# Altium footprint library CONN_HDR_2MM_ST.PcbLib: 49 footprints (part 3 of 4)
Each footprint in its own frame and in the unit in brackets; x right, y up, seen from the top. Pads: shape width x height; smd on the part's side, far side on the other; paste and mask are expansions set on the pad; w line width, h text height; cw(c..) or ccw(c..) is an arc to the next point about the centre after c.
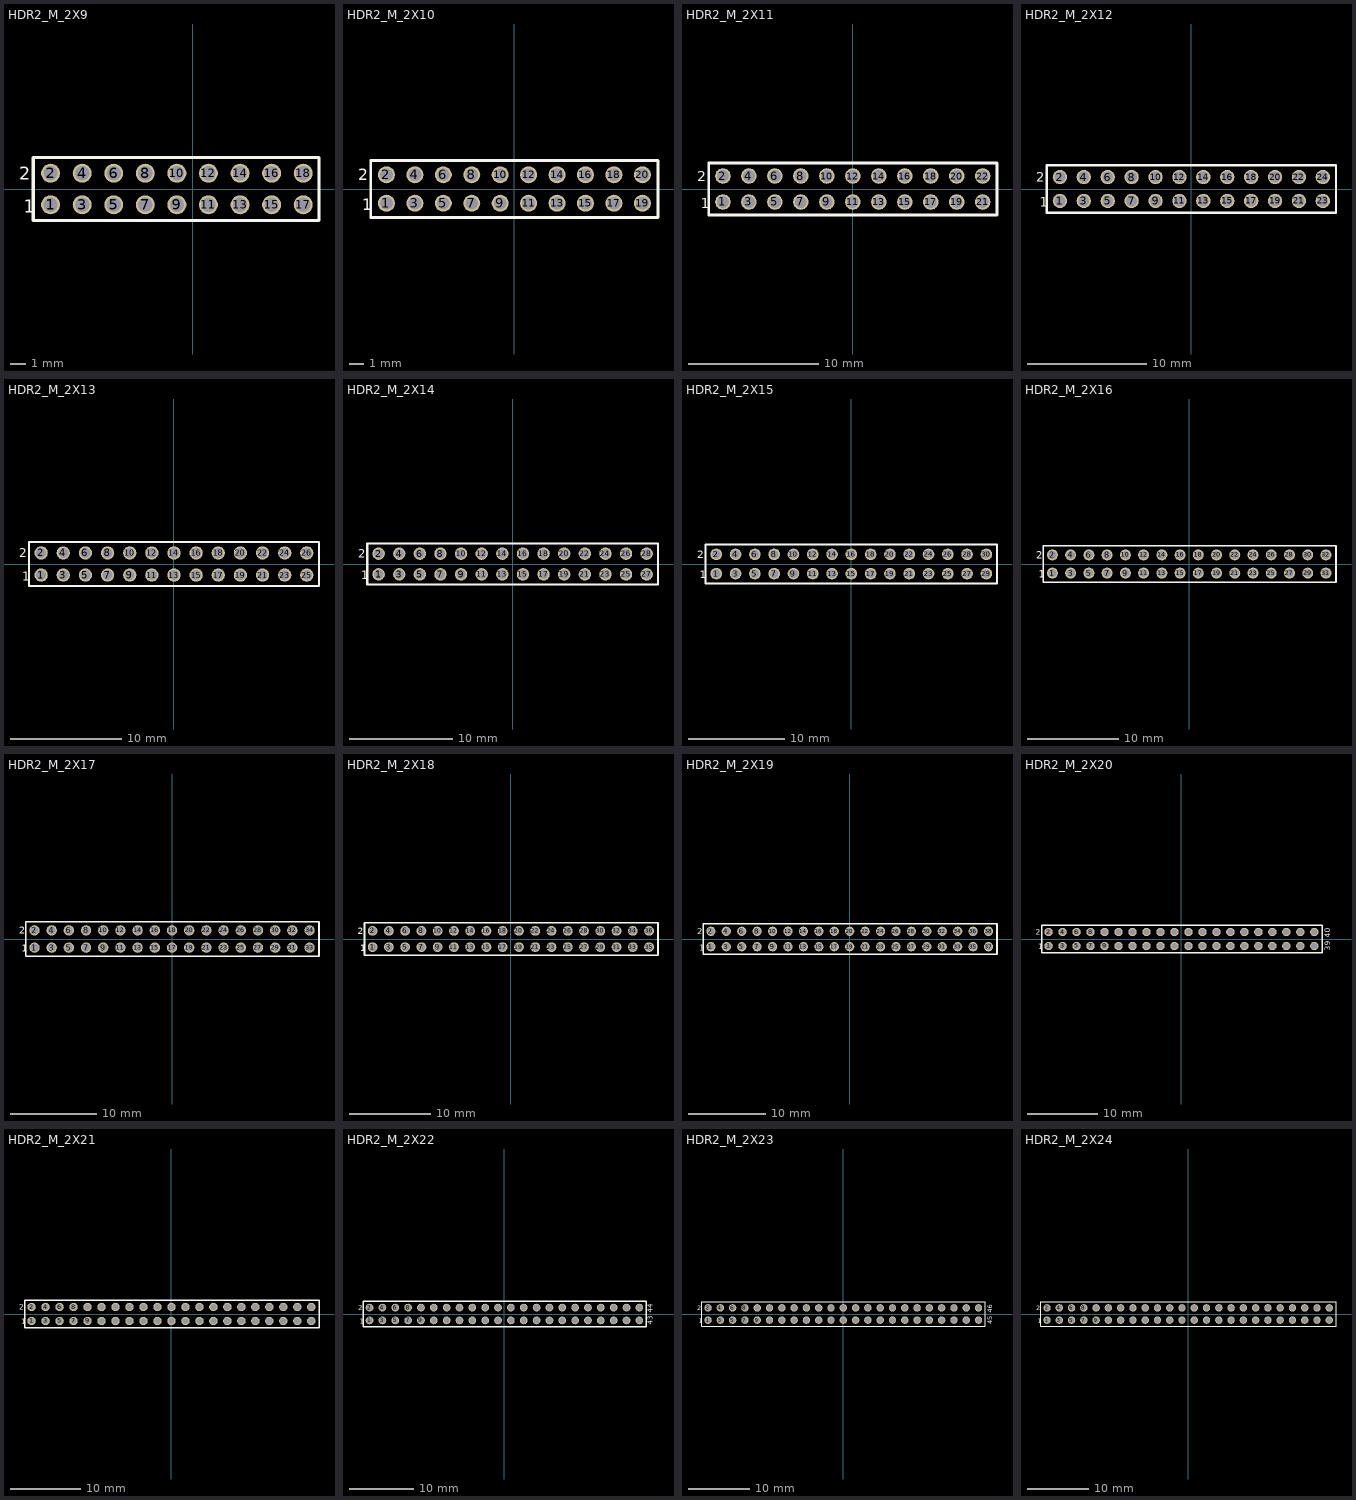
[diagram p2: the footprints below, top view; thin cyan lines are the x and y axes]

## HDR2_M_2X9 [mm] "Connector; Header; 2mm Pitch"
pads (18):
  round 1.2 / inner round 1.2 / far side oval 1.2x1.6 hole 0.9: 1(-9,-1) 2(-9,1) 3(-7,-1) 4(-7,1) 5(-5,-1) 6(-5,1) 7(-3,-1) 8(-3,1) 9(-1,-1) 10(-1,1) 11(1,-1) 12(1,1) 13(3,-1) 14(3,1) 15(5,-1) 16(5,1) 17(7,-1) 18(7,1)
Top Overlay:
  lines w0.2: -10.1,-2 8,-2 8,2 -10.1,2 -10.1,-2
  text "1" at -10.7,-1.5 h0.8
  text "2" at -11,0.6 h0.8
3D body "pin_header_a-sl200-dg-g06d.stp": height 6, standoff -2.8, extent 2.05,-2 7.95,2
3D body "pin_header_a-sl200-dg-g06d.stp": height 6, standoff -2.8, extent -3.95,-2 1.95,2
3D body "pin_header_a-sl200-dg-g06d.stp": height 6, standoff -2.8, extent -9.95,-2 -4.05,2

## HDR2_M_2X10 [mm] "Connector; Header; 2mm Pitch"
pads (20):
  round 1.2 / inner round 1.2 / far side oval 1.2x1.6 hole 0.9: 1(-9,-1) 2(-9,1) 3(-7,-1) 4(-7,1) 5(-5,-1) 6(-5,1) 7(-3,-1) 8(-3,1) 9(-1,-1) 10(-1,1) 11(1,-1) 12(1,1) 13(3,-1) 14(3,1) 15(5,-1) 16(5,1) 17(7,-1) 18(7,1) 19(9,-1) 20(9,1)
Top Overlay:
  lines w0.2: -10.1,-2 10.1,-2 10.1,2 -10.1,2 -10.1,-2
  text "1" at -10.7,-1.5 h0.8
  text "2" at -11,0.6 h0.8
3D body "pin_header_a-sl200-dg-g20d.stp": height 6, standoff -2.8, extent -9.95,-2 9.95,2

## HDR2_M_2X11 [mm] "Connector; Header; 2mm Pitch"
pads (22):
  round 1.2 / inner round 1.2 / far side oval 1.2x1.6 hole 0.9: 1(-10,-1) 2(-10,1) 3(-8,-1) 4(-8,1) 5(-6,-1) 6(-6,1) 7(-4,-1) 8(-4,1) 9(-2,-1) 10(-2,1) 11(0,-1) 12(0,1) 13(2,-1) 14(2,1) 15(4,-1) 16(4,1) 17(6,-1) 18(6,1) 19(8,-1) 20(8,1) 21(10,-1) 22(10,1)
Top Overlay:
  lines w0.2: -11.1,-2 11.1,-2 11.1,2 -11.1,2 -11.1,-2
  text "1" at -11.7,-1.5 h0.8
  text "2" at -12,0.6 h0.8
3D body "pin_header_a-sl200-dg-g04d.stp": height 6, standoff -2.8, extent 7.05,-2 10.95,2
3D body "pin_header_a-sl200-dg-g06d.stp": height 6, standoff -2.8, extent -10.95,-2 -5.05,2
3D body "pin_header_a-sl200-dg-g06d.stp": height 6, standoff -2.8, extent -4.95,-2 0.95,2
3D body "pin_header_a-sl200-dg-g06d.stp": height 6, standoff -2.8, extent 1.05,-2 6.95,2

## HDR2_M_2X12 [mm] "Connector; Header; 2mm Pitch"
pads (24):
  round 1.2 / inner round 1.2 / far side oval 1.2x1.6 hole 0.9: 1(-11,-1) 2(-11,1) 3(-9,-1) 4(-9,1) 5(-7,-1) 6(-7,1) 7(-5,-1) 8(-5,1) 9(-3,-1) 10(-3,1) 11(-1,-1) 12(-1,1) 13(1,-1) 14(1,1) 15(3,-1) 16(3,1) 17(5,-1) 18(5,1) 19(7,-1) 20(7,1) 21(9,-1) 22(9,1) 23(11,-1) 24(11,1)
Top Overlay:
  lines w0.2: -12.1,-2 -12.1,2 12.1,2 12.1,-2 -12.1,-2
  text "2" at -13,0.6 h0.8
  text "1" at -12.7,-1.5 h0.8
3D body "pin_header_a-sl200-dg-g20d.stp": height 6, standoff -2.8, extent -11.95,-2 7.95,2
3D body "pin_header_a-sl200-dg-g04d.stp": height 6, standoff -2.8, extent 8.05,-2 11.95,2

## HDR2_M_2X13 [mm] "Connector; Header; 2mm Pitch"
pads (26):
  round 1.2 / inner round 1.2 / far side oval 1.2x1.6 hole 0.9: 1(-12,-1) 2(-12,1) 3(-10,-1) 4(-10,1) 5(-8,-1) 6(-8,1) 7(-6,-1) 8(-6,1) 9(-4,-1) 10(-4,1) 11(-2,-1) 12(-2,1) 13(0,-1) 14(0,1) 15(2,-1) 16(2,1) 17(4,-1) 18(4,1) 19(6,-1) 20(6,1) 21(8,-1) 22(8,1) 23(10,-1) 24(10,1) 25(12,-1) 26(12,1)
Top Overlay:
  lines w0.2: -13.1,-2 13.1,-2 13.1,2 -13.1,2 -13.1,-2
  text "1" at -13.7,-1.5 h0.8
  text "2" at -14,0.6 h0.8
3D body "pin_header_a-sl200-dg-g06d.stp": height 6, standoff -2.8, extent 7.05,-2 12.95,2
3D body "pin_header_a-sl200-dg-g20d.stp": height 6, standoff -2.8, extent -12.95,-2 6.95,2

## HDR2_M_2X14 [mm] "Connector; Header; 2mm Pitch"
pads (28):
  round 1.2 / inner round 1.2 / far side oval 1.2x1.6 hole 0.9: 1(-13,-1) 2(-13,1) 3(-11,-1) 4(-11,1) 5(-9,-1) 6(-9,1) 7(-7,-1) 8(-7,1) 9(-5,-1) 10(-5,1) 11(-3,-1) 12(-3,1) 13(-1,-1) 14(-1,1) 15(1,-1) 16(1,1) 17(3,-1) 18(3,1) 19(5,-1) 20(5,1) 21(7,-1) 22(7,1) 23(9,-1) 24(9,1) 25(11,-1) 26(11,1) 27(13,-1) 28(13,1)
Top Overlay:
  lines w0.2: -14.1,-2 -14.1,2 14.1,2 14.1,-2 -14.1,-2
  text "2" at -15,0.6 h0.8
  text "1" at -14.7,-1.5 h0.8
3D body "pin_header_a-sl200-dg-g08d.stp": height 6, standoff -2.8, extent 6.05,-2 13.95,2
3D body "pin_header_a-sl200-dg-g20d.stp": height 6, standoff -2.8, extent -13.95,-2 5.95,2

## HDR2_M_2X15 [mm] "Connector; Header; 2mm Pitch"
pads (30):
  round 1.2 / inner round 1.2 / far side oval 1.2x1.6 hole 0.9: 1(-14,-1) 2(-14,1) 3(-12,-1) 4(-12,1) 5(-10,-1) 6(-10,1) 7(-8,-1) 8(-8,1) 9(-6,-1) 10(-6,1) 11(-4,-1) 12(-4,1) 13(-2,-1) 14(-2,1) 15(0,-1) 16(0,1) 17(2,-1) 18(2,1) 19(4,-1) 20(4,1) 21(6,-1) 22(6,1) 23(8,-1) 24(8,1) 25(10,-1) 26(10,1) 27(12,-1) 28(12,1) 29(14,-1) 30(14,1)
Top Overlay:
  lines w0.2: -15.1,-2 -15.1,2 15.1,2 15.1,-2 -15.1,-2
  text "2" at -16,0.6 h0.8
  text "1" at -15.7,-1.5 h0.8
3D body "pin_header_a-sl200-dg-g10d.stp": height 6, standoff -2.8, extent 5.05,-2 14.95,2
3D body "pin_header_a-sl200-dg-g20d.stp": height 6, standoff -2.8, extent -14.95,-2 4.95,2

## HDR2_M_2X16 [mm] "Connector; Header; 16x2 Position; 2mm Pitch"
pads (32):
  round 1.2 / inner round 1.2 / far side oval 1.2x1.6 hole 0.9: 1(-15,-1) 2(-15,1) 3(-13,-1) 4(-13,1) 5(-11,-1) 6(-11,1) 7(-9,-1) 8(-9,1) 9(-7,-1) 10(-7,1) 11(-5,-1) 12(-5,1) 13(-3,-1) 14(-3,1) 15(-1,-1) 16(-1,1) 17(1,-1) 18(1,1) 19(3,-1) 20(3,1) 21(5,-1) 22(5,1) 23(7,-1) 24(7,1) 25(9,-1) 26(9,1) 27(11,-1) 28(11,1) 29(13,-1) 30(13,1) 31(15,-1) 32(15,1)
Top Overlay:
  lines w0.2: -16,-2 -16,2 16.1,2 16.1,-2 -16,-2
  text "2" at -16.8,0.6 h0.8
  text "1" at -16.5,-1.5 h0.8
3D body "pin_header_a-sl200-dg-g20d.stp": height 6, standoff -2.8, extent -15.95,-2 3.95,2
3D body "pin_header_a-sl200-dg-g06d.stp": height 6, standoff -2.8, extent 4.05,-2 9.95,2
3D body "pin_header_a-sl200-dg-g06d.stp": height 6, standoff -2.8, extent 10.05,-2 15.95,2

## HDR2_M_2X17 [mm] "Connector; Header; 2mm Pitch"
pads (34):
  round 1.2 / inner round 1.2 / far side oval 1.2x1.6 hole 0.9: 1(-16,-1) 2(-16,1) 3(-14,-1) 4(-14,1) 5(-12,-1) 6(-12,1) 7(-10,-1) 8(-10,1) 9(-8,-1) 10(-8,1) 11(-6,-1) 12(-6,1) 13(-4,-1) 14(-4,1) 15(-2,-1) 16(-2,1) 17(0,-1) 18(0,1) 19(2,-1) 20(2,1) 21(4,-1) 22(4,1) 23(6,-1) 24(6,1) 25(8,-1) 26(8,1) 27(10,-1) 28(10,1) 29(12,-1) 30(12,1) 31(14,-1) 32(14,1) 33(16,-1) 34(16,1)
Top Overlay:
  lines w0.2: -17,-2 -17,2 17.1,2 17.1,-2 -17,-2
  text "2" at -17.8,0.6 h0.8
  text "1" at -17.5,-1.5 h0.8
3D body "pin_header_a-sl200-dg-g06d.stp": height 6, standoff -2.8, extent 3.05,-2 8.95,2
3D body "pin_header_a-sl200-dg-g08d.stp": height 6, standoff -2.8, extent 9.05,-2 16.95,2
3D body "pin_header_a-sl200-dg-g20d.stp": height 6, standoff -2.8, extent -16.95,-2 2.95,2

## HDR2_M_2X18 [mm] "Connector; Header; 2mm Pitch"
pads (36):
  round 1.2 / inner round 1.2 / far side oval 1.2x1.6 hole 0.9: 1(-17,-1) 2(-17,1) 3(-15,-1) 4(-15,1) 5(-13,-1) 6(-13,1) 7(-11,-1) 8(-11,1) 9(-9,-1) 10(-9,1) 11(-7,-1) 12(-7,1) 13(-5,-1) 14(-5,1) 15(-3,-1) 16(-3,1) 17(-1,-1) 18(-1,1) 19(1,-1) 20(1,1) 21(3,-1) 22(3,1) 23(5,-1) 24(5,1) 25(7,-1) 26(7,1) 27(9,-1) 28(9,1) 29(11,-1) 30(11,1) 31(13,-1) 32(13,1) 33(15,-1) 34(15,1) 35(17,-1) 36(17,1)
Top Overlay:
  lines w0.2: -18,-2 -18,2 18.1,2 18.1,-2 -18,-2
  text "2" at -18.8,0.6 h0.8
  text "1" at -18.5,-1.5 h0.8
3D body "pin_header_a-sl200-dg-g20d.stp": height 6, standoff -2.8, extent -17.95,-2 1.95,2
3D body "pin_header_a-sl200-dg-g08d.stp": height 6, standoff -2.8, extent 2.05,-2 9.95,2
3D body "pin_header_a-sl200-dg-g08d.stp": height 6, standoff -2.8, extent 10.05,-2 17.95,2

## HDR2_M_2X19 [mm] "Connector; Header; 2mm Pitch"
pads (38):
  round 1.2 / inner round 1.2 / far side oval 1.2x1.6 hole 0.9: 1(-18,-1) 2(-18,1) 3(-16,-1) 4(-16,1) 5(-14,-1) 6(-14,1) 7(-12,-1) 8(-12,1) 9(-10,-1) 10(-10,1) 11(-8,-1) 12(-8,1) 13(-6,-1) 14(-6,1) 15(-4,-1) 16(-4,1) 17(-2,-1) 18(-2,1) 19(0,-1) 20(0,1) 21(2,-1) 22(2,1) 23(4,-1) 24(4,1) 25(6,-1) 26(6,1) 27(8,-1) 28(8,1) 29(10,-1) 30(10,1) 31(12,-1) 32(12,1) 33(14,-1) 34(14,1) 35(16,-1) 36(16,1) 37(18,-1) 38(18,1)
Top Overlay:
  lines w0.2: -19,-2 -19,2 19.1,2 19.1,-2 -19,-2
  text "2" at -19.8,0.6 h0.8
  text "1" at -19.5,-1.5 h0.8
3D body "pin_header_a-sl200-dg-g06d.stp": height 6, standoff -2.8, extent 13.05,-2 18.95,2
3D body "pin_header_a-sl200-dg-g06d.stp": height 6, standoff -2.8, extent 7.05,-2 12.95,2
3D body "pin_header_a-sl200-dg-g06d.stp": height 6, standoff -2.8, extent 1.05,-2 6.95,2
3D body "pin_header_a-sl200-dg-g20d.stp": height 6, standoff -2.8, extent -18.95,-2 0.95,2

## HDR2_M_2X20 [mm] "Connector; Header; 20x2 Position; 2mm Pitch"
pads (40):
  round 1.2 / inner round 1.2 / far side oval 1.2x1.6 hole 0.9: 1(-19,-1) 2(-19,1) 3(-17,-1) 4(-17,1) 5(-15,-1) 6(-15,1) 7(-13,-1) 8(-13,1) 9(-11,-1) 10(-11,1) 11(-9,-1) 12(-9,1) 13(-7,-1) 14(-7,1) 15(-5,-1) 16(-5,1) 17(-3,-1) 18(-3,1) 19(-1,-1) 20(-1,1) 21(1,-1) 22(1,1) 23(3,-1) 24(3,1) 25(5,-1) 26(5,1) 27(7,-1) 28(7,1) 29(9,-1) 30(9,1) 31(11,-1) 32(11,1) 33(13,-1) 34(13,1) 35(15,-1) 36(15,1) 37(17,-1) 38(17,1) 39(19,-1) 40(19,1)
Top Overlay:
  lines w0.2: -20,-2 20.1,-2 20.1,2 -20,2 -20,-2
  text "1" at -20.5,-1.5 h0.8
  text "2" at -20.8,0.6 h0.8
  text "40" at 21.3,0.2 h0.8
  text "39" at 21.3,-1.7 h0.8
3D body "pin_header_a-sl200-dg-g20d.stp": height 6, standoff -2.8, extent 0.05,-2 19.95,2
3D body "pin_header_a-sl200-dg-g20d.stp": height 6, standoff -2.8, extent -19.95,-2 -0.05,2

## HDR2_M_2X21 [mm] "Connector; Header; 21x2 Position; 2mm Pitch"
pads (42):
  round 1.2 / inner round 1.2 / far side oval 1.2x1.6 hole 0.9: 1(-20,-1) 2(-20,1) 3(-18,-1) 4(-18,1) 5(-16,-1) 6(-16,1) 7(-14,-1) 8(-14,1) 9(-12,-1) 10(-12,1) 11(-10,-1) 12(-10,1) 13(-8,-1) 14(-8,1) 15(-6,-1) 16(-6,1) 17(-4,-1) 18(-4,1) 19(-2,-1) 20(-2,1) 21(0,-1) 22(0,1) 23(2,-1) 24(2,1) 25(4,-1) 26(4,1) 27(6,-1) 28(6,1) 29(8,-1) 30(8,1) 31(10,-1) 32(10,1) 33(12,-1) 34(12,1) 35(14,-1) 36(14,1) 37(16,-1) 38(16,1) 39(18,-1) 40(18,1) 41(20,-1) 42(20,1)
Top Overlay:
  lines w0.2: -21,-2 21.1,-2 21.1,2 -21,2 -21,-2
  text "1" at -21.5,-1.5 h0.8
  text "2" at -21.8,0.6 h0.8
3D body "pin_header_a-sl200-dg-g20d.stp": height 6, standoff -2.8, extent -20.95,-2 -1.05,2
3D body "pin_header_a-sl200-dg-g04d.stp": height 6, standoff -2.8, extent 17.05,-2 20.95,2
3D body "pin_header_a-sl200-dg-g06d.stp": height 6, standoff -2.8, extent -0.95,-2 4.95,2
3D body "pin_header_a-sl200-dg-g06d.stp": height 6, standoff -2.8, extent 5.05,-2 10.95,2
3D body "pin_header_a-sl200-dg-g06d.stp": height 6, standoff -2.8, extent 11.05,-2 16.95,2

## HDR2_M_2X22 [mm] "Connector; Header; 22x2 Position; 2mm Pitch"
pads (44):
  round 1.2 / inner round 1.2 / far side oval 1.2x1.6 hole 0.9: 1(-21,-1) 2(-21,1) 3(-19,-1) 4(-19,1) 5(-17,-1) 6(-17,1) 7(-15,-1) 8(-15,1) 9(-13,-1) 10(-13,1) 11(-11,-1) 12(-11,1) 13(-9,-1) 14(-9,1) 15(-7,-1) 16(-7,1) 17(-5,-1) 18(-5,1) 19(-3,-1) 20(-3,1) 21(-1,-1) 22(-1,1) 23(1,-1) 24(1,1) 25(3,-1) 26(3,1) 27(5,-1) 28(5,1) 29(7,-1) 30(7,1) 31(9,-1) 32(9,1) 33(11,-1) 34(11,1) 35(13,-1) 36(13,1) 37(15,-1) 38(15,1) 39(17,-1) 40(17,1) 41(19,-1) 42(19,1) 43(21,-1) 44(21,1)
Top Overlay:
  lines w0.2: -22,-2 -22,2 22.1,2 22.1,-2 -22,-2
  text "43" at 23.1,-1.7 h0.8
  text "44" at 23.1,0.2 h0.8
  text "2" at -22.8,0.6 h0.8
  text "1" at -22.5,-1.5 h0.8
3D body "pin_header_a-sl200-dg-g04d.stp": height 6, standoff -2.8, extent 18.05,-2 21.95,2
3D body "pin_header_a-sl200-dg-g20d.stp": height 6, standoff -2.8, extent -21.95,-2 -2.05,2
3D body "pin_header_a-sl200-dg-g20d.stp": height 6, standoff -2.8, extent -1.95,-2 17.95,2

## HDR2_M_2X23 [mm] "Connector; Header; 23x2 Position; 2mm Pitch"
pads (46):
  round 1.2 / inner round 1.2 / far side oval 1.2x1.6 hole 0.9: 1(-22,-1) 2(-22,1) 3(-20,-1) 4(-20,1) 5(-18,-1) 6(-18,1) 7(-16,-1) 8(-16,1) 9(-14,-1) 10(-14,1) 11(-12,-1) 12(-12,1) 13(-10,-1) 14(-10,1) 15(-8,-1) 16(-8,1) 17(-6,-1) 18(-6,1) 19(-4,-1) 20(-4,1) 21(-2,-1) 22(-2,1) 23(0,-1) 24(0,1) 25(2,-1) 26(2,1) 27(4,-1) 28(4,1) 29(6,-1) 30(6,1) 31(8,-1) 32(8,1) 33(10,-1) 34(10,1) 35(12,-1) 36(12,1) 37(14,-1) 38(14,1) 39(16,-1) 40(16,1) 41(18,-1) 42(18,1) 43(20,-1) 44(20,1) 45(22,-1) 46(22,1)
Top Overlay:
  lines w0.2: -23,-2 -23,2 23.1,2 23.1,-2 -23,-2
  text "45" at 24.2,-1.7 h0.8
  text "46" at 24.2,0.2 h0.8
  text "2" at -23.8,0.6 h0.8
  text "1" at -23.5,-1.5 h0.8
3D body "pin_header_a-sl200-dg-g06d.stp": height 6, standoff -2.8, extent 17.05,-2 22.95,2
3D body "pin_header_a-sl200-dg-g20d.stp": height 6, standoff -2.8, extent -22.95,-2 -3.05,2
3D body "pin_header_a-sl200-dg-g20d.stp": height 6, standoff -2.8, extent -2.95,-2 16.95,2

## HDR2_M_2X24 [mm] "Connector; Header; 24x2 Position; 2mm Pitch"
pads (48):
  round 1.2 / inner round 1.2 / far side oval 1.2x1.6 hole 0.9: 1(-23,-1) 2(-23,1) 3(-21,-1) 4(-21,1) 5(-19,-1) 6(-19,1) 7(-17,-1) 8(-17,1) 9(-15,-1) 10(-15,1) 11(-13,-1) 12(-13,1) 13(-11,-1) 14(-11,1) 15(-9,-1) 16(-9,1) 17(-7,-1) 18(-7,1) 19(-5,-1) 20(-5,1) 21(-3,-1) 22(-3,1) 23(-1,-1) 24(-1,1) 25(1,-1) 26(1,1) 27(3,-1) 28(3,1) 29(5,-1) 30(5,1) 31(7,-1) 32(7,1) 33(9,-1) 34(9,1) 35(11,-1) 36(11,1) 37(13,-1) 38(13,1) 39(15,-1) 40(15,1) 41(17,-1) 42(17,1) 43(19,-1) 44(19,1) 45(21,-1) 46(21,1) 47(23,-1) 48(23,1)
Top Overlay:
  lines w0.2: -24,-2 -24,2 24.1,2 24.1,-2 -24,-2
  text "2" at -24.8,0.6 h0.8
  text "1" at -24.5,-1.5 h0.8
3D body "pin_header_a-sl200-dg-g04d.stp": height 6, standoff -2.8, extent 20.05,-2 23.95,2
3D body "pin_header_a-sl200-dg-g20d.stp": height 6, standoff -2.8, extent 0.05,-2 19.95,2
3D body "pin_header_a-sl200-dg-g04d.stp": height 6, standoff -2.8, extent -3.95,-2 -0.05,2
3D body "pin_header_a-sl200-dg-g20d.stp": height 6, standoff -2.8, extent -23.95,-2 -4.05,2